# EAGLE library part TPS7A4701RGWT (library TPS7A4701RGWT)
TEXAS INSTRUMENTS - TPS7A4701RGWT - LDO, ADJ, 1.4V-34V, 1A, VQFN-20 Source: Datasheet <http://www.ti.com/lit/gpn/tps7a47>
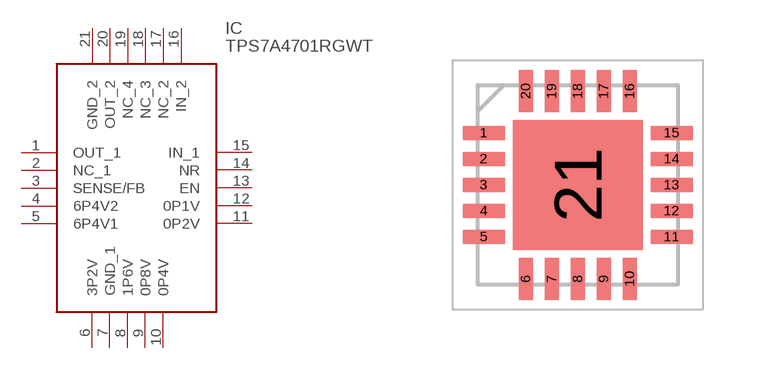
[diagram p0: symbol with the pads of QFN65P500X500X100-21N; footprint QFN65P500X500X100-21N]

Designator prefix IC

## TPS7A4701RGWT (Arrow_Part_Number: TPS7A4701RGWT; Arrow_Price-Stock: https://www.arrow.com/en/products/tps7a4701rgwt/texas-instruments?utm_currency=USD&region=nac; Description: TEXAS INSTRUMENTS - TPS7A4701RGWT - LDO, ADJ, 1.4V-34V, 1A, VQFN-20; Height: 1mm; Manufacturer_Name: Texas Instruments; Manufacturer_Part_Number: TPS7A4701RGWT; Mouser_Part_Number: 595-TPS7A4701RGWT; Mouser_Price-Stock: https://www.mouser.co.uk/ProductDetail/Texas-Instruments/TPS7A4701RGWT?qs=2YfbMANv380lIzdxzN9K4Q%3D%3D)  [QFN65P500X500X100-21N]
1  OUT_1
2  NC_1
3  SENSE/FB
4  6P4V2
5  6P4V1
6  3P2V
7  GND_1
8  1P6V
9  0P8V
10  0P4V
11  0P2V
12  0P1V
13  EN
14  NR
15  IN_1
16  IN_2
17  NC_2
18  NC_3
19  NC_4
20  OUT_2
21  GND_2

## Footprint QFN65P500X500X100-21N (pad centres in mm)
TPS7A4701RGWT-1
smd 1.05 x 0.35: 1 -2.35,1.3; 2 -2.35,0.65; 3 -2.35,0; 4 -2.35,-0.65; 5 -2.35,-1.3; 11 2.35,-1.3; 12 2.35,-0.65; 13 2.35,0; 14 2.35,0.65; 15 2.35,1.3
smd 0.35 x 1.05: 6 -1.3,-2.35; 7 -0.65,-2.35; 8 0,-2.35; 9 0.65,-2.35; 10 1.3,-2.35; 16 1.3,2.35; 17 0.65,2.35; 18 0,2.35; 19 -0.65,2.35; 20 -1.3,2.35
smd 3.25 x 3.25: 21 0,0